# Altium footprint library PCB - CAPACITOR - CHIP - WCAP-PSHP_D8mm x L7.7mm.PCBLIB: 1 footprints
Each footprint in its own frame and in the unit in brackets; x right, y up, seen from the top. Pads: shape width x height; smd on the part's side, far side on the other; paste and mask are expansions set on the pad; w line width, h text height; cw(c..) or ccw(c..) is an arc to the next point about the centre after c.
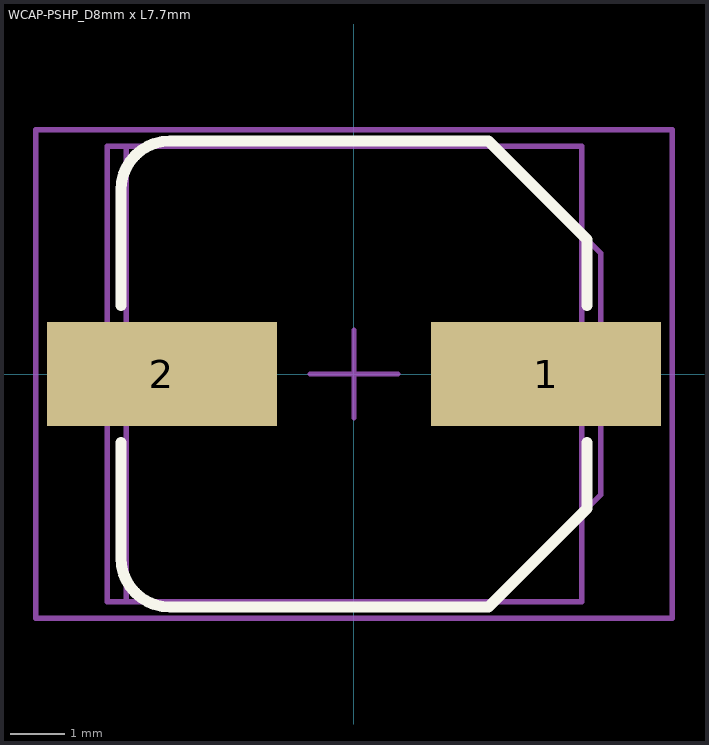
[diagram p0: the footprint, top view; thin cyan lines are the x and y axes]

## WCAP-PSHP_D8mm x L7.7mm [mm] "Aluminium Polymer V-Chip SMT Capacitors, D8mm x L7.7mm"
height 7.7
pads (2):
  rect 4.2x1.9 smd: 1(3.5,0) 2(-3.5,0)
Top Overlay:
  lines w0.2: -4.25,-1.25 -4.25,-3.35 ccw(c-3.35,-3.35) -3.35,-4.25 2.45,-4.25 4.25,-2.45 4.25,-1.25 ; -4.25,1.25 -4.25,3.35 cw(c-3.35,3.35) -3.35,4.25 2.45,4.25 4.25,2.45 4.25,1.25
M5 Assembly Top:
  lines w0.1: -4.5,-4.15 2.55,-4.15 4.5,-2.2 4.5,2.2 2.55,4.15 -4.5,4.15 -4.5,-4.15
  text ".Designator" at -2.4,-0.8 h1.52
Mechanical 11:
  lines w0.1: -4.15,-4.15 -4.15,4.15 4.15,4.15 4.15,-4.15 -4.15,-4.15
Mechanical 15:
  lines w0.1: -0.8,0 0.8,0 ; 0,-0.8 0,0.8 ; -5.8,-4.45 5.8,-4.45 5.8,4.45 -5.8,4.45 -5.8,-4.45
3D body "8x7.7x3.1.stp": height 7.67, standoff -0.03, extent -4.5,-4.15 4.5,4.15